# EAGLE library part ACCELERATOR (library esp32-component-libraries_v192)
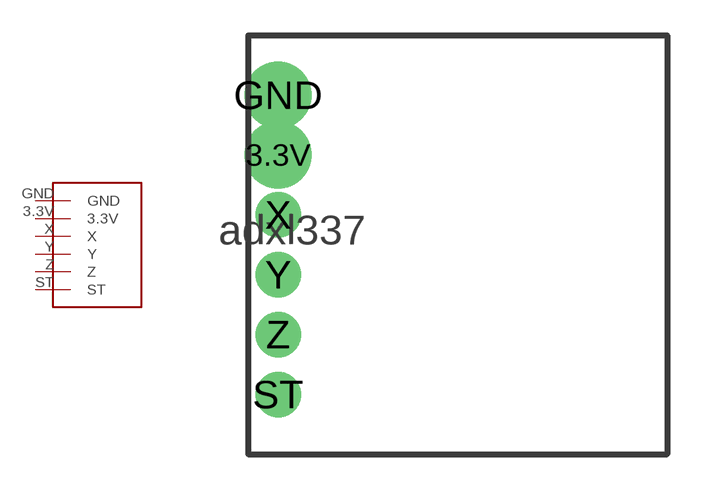
[diagram p1: symbol with the pads of ACCELERATOR; footprint ACCELERATOR]

Designator prefix -

## ACCELERATOR  [ACCELERATOR]
3.3V  3.3V
GND  GND
ST  ST
X  X
Y  Y
Z  Z

## Footprint ACCELERATOR (pad centres in mm)
drill 1.905 pad 2.311: 3.3V 0,3.81; GND 0,6.35
drill 1.27 pad 1.93: ST 0,-6.35; X 0,1.27; Y 0,-1.27; Z 0,-3.81